# Altium schematic symbol library TPS54331D.SchLib: 2 symbols
Pins are listed as number, name and electrical type; pins without a type are passive.

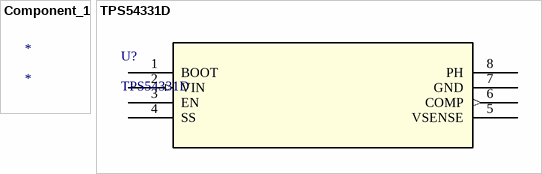
[diagram p0: symbols Component_1 to TPS54331D]

## Component_1
designator *

## TPS54331D
designator U?
No Description Available; Mfr_Name: Texas Instruments; Copyright: Copyright (C) 2021 Ultra Librarian. All rights reserved.; Manufacturer_Part_Number: TPS54331D; RefDes: RefDes; Type: DEV
footprint D8
pins: 1 BOOT, 2 VIN (in), 3 EN, 4 SS, 5 VSENSE, 6 COMP (out), 7 GND (power), 8 PH (power)